# EAGLE library part FT232RQ-REEL (library FaceTrackingDrone)
IC USB FS SERIAL UART 32-QFN
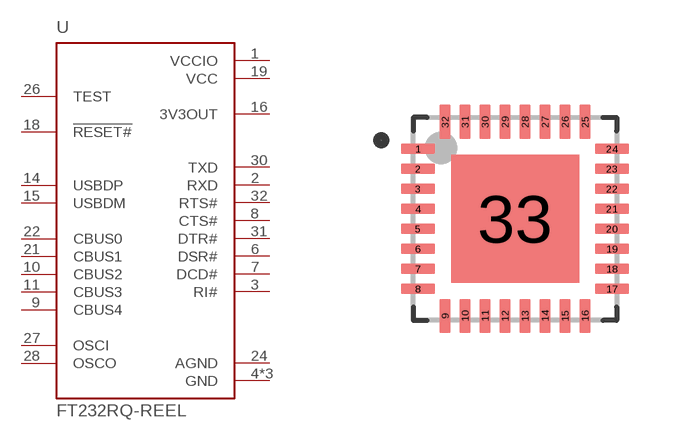
[diagram p1: symbol with the pads of QFN50P500X500X100-33N; footprint QFN50P500X500X100-33N]

Designator prefix U

## FT232RQ-REEL (AVAILABILITY: Unavailable; DESCRIPTION: USB-to-UART 1-CH 256Byte FIFO 5V 32-Pin QFN EP; MF: FTDI; MP: FT232RQ; PACKAGE: None; PRICE: None)  [QFN50P500X500X100-33N]
1  VCCIO  pwr
2  RXD  in
3  RI#  in
4  GND  pwr
6  DSR#  in
7  DCD#  in
8  CTS#  in
9  CBUS4
10  CBUS2
11  CBUS3
14  USBDP
15  USBDM
16  3V3OUT  out
17  GND  pwr
18  !RESET#  in
19  VCC  pwr
20  GND  pwr
21  CBUS1
22  CBUS0
24  AGND  pwr
26  TEST  in
27  OSCI  in
28  OSCO  out
30  TXD  out
31  DTR#  out
32  RTS#  out

## Footprint QFN50P500X500X100-33N (pad centres in mm)
QFP-32 package 5x5 mm case, 0.5 mm lead pitch
smd 0.86 x 0.27: 1 -2.425,1.75; 2 -2.425,1.25; 3 -2.425,0.75; 4 -2.425,0.25; 5 -2.425,-0.25; 6 -2.425,-0.75; 7 -2.425,-1.25; 8 -2.425,-1.75; 17 2.425,-1.75; 18 2.425,-1.25; 19 2.425,-0.75; 20 2.425,-0.25; 21 2.425,0.25; 22 2.425,0.75; 23 2.425,1.25; 24 2.425,1.75
smd 0.27 x 0.86: 9 -1.75,-2.425; 10 -1.25,-2.425; 11 -0.75,-2.425; 12 -0.25,-2.425; 13 0.25,-2.425; 14 0.75,-2.425; 15 1.25,-2.425; 16 1.75,-2.425; 25 1.75,2.425; 26 1.25,2.425; 27 0.75,2.425; 28 0.25,2.425; 29 -0.25,2.425; 30 -0.75,2.425; 31 -1.25,2.425; 32 -1.75,2.425
smd 3.2 x 3.2: 33 0,0